# Altium footprint library VEML6035.PcbLib: 1 footprints
Each footprint in its own frame and in the unit in brackets; x right, y up, seen from the top. Pads: shape width x height; smd on the part's side, far side on the other; paste and mask are expansions set on the pad; w line width, h text height; cw(c..) or ccw(c..) is an arc to the next point about the centre after c.
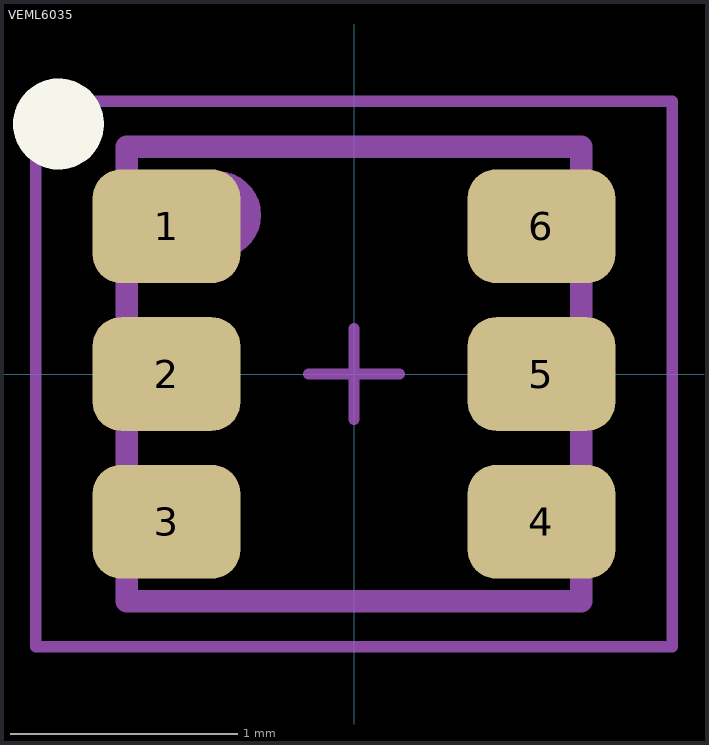
[diagram p0: the footprint, top view; thin cyan lines are the x and y axes]

## VEML6035 [mm]
pads (6):
  rrect50% 0.65x0.5 smd mask+0.05: 1(-0.825,0.65) 2(-0.825,0) 3(-0.825,-0.65) 4(0.825,-0.65) 5(0.825,0) 6(0.825,0.65)
Top Overlay:
  circle w0.2: c-1.3,1.1 r0.1
Top Assembly:
  circle w0.1: c-0.6,0.7 r0.141
  lines w0.1: -1,-1 -1,1 1,1 1,-1 -1,-1
Top Courtyard:
  lines w0.05: -0.2,0 0.2,0 ; 0,-0.2 0,0.2 ; -1.4,-1.2 -1.4,1.2 1.4,1.2 1.4,-1.2 -1.4,-1.2
3D body "MarCom-3D-VEML6035.stp": height 0.37, standoff -0.04, extent -1,-1 1,1